# Altium integrated library WE-SL SMD Common Mode Line Filter.IntLib: 7 symbols
Pins are listed as number, name and electrical type; pins without a type are passive.

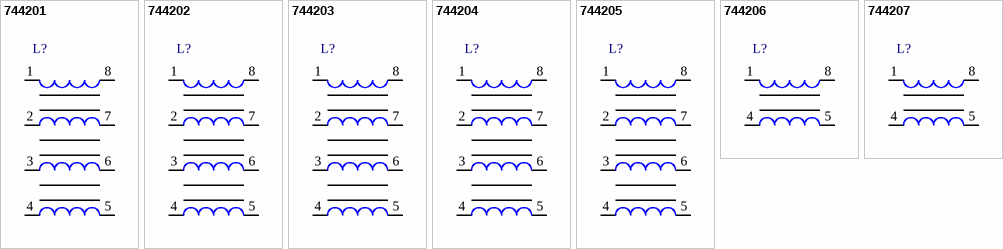
[diagram p0: symbols 744201 to 744207]

## 744201
designator L?
SMD Common Mode Line Filter WE-SL, L = 4700 µH; PartNumber: 744201; Inductance: 4700 µH; DatasheetVersion: ver 6, Dec-2010; PackageReference: WE-SL; PackageDescription: SMD Inductor, 8-Leads, Body 10.5 x 9.7 mm; ComponentLink1Description: Manufacturer URL; ComponentLink1URL: http://www.we-online.com; ComponentLink2Description: Datasheet; ComponentLink2URL: http://www.we-online.de/katalog/media/pdf/744201.pdf
footprint WE-SL (SMD Inductor, 8-Leads, Body 10.5x9.7x6.05 mm)
pins: 1, 2, 3, 4, 5, 6, 7, 8

## 744202
designator L?
SMD Common Mode Line Filter WE-SL, L = 1000 µH; PartNumber: 744202; Inductance: 1000 µH; DatasheetVersion: ver 6, Dec-2010; PackageReference: WE-SL; PackageDescription: SMD Inductor, 8-Leads, Body 10.5 x 9.7 mm; ComponentLink1Description: Manufacturer URL; ComponentLink1URL: http://www.we-online.com; ComponentLink2Description: Datasheet; ComponentLink2URL: http://www.we-online.de/katalog/media/pdf/744202.pdf
footprint WE-SL (SMD Inductor, 8-Leads, Body 10.5x9.7x6.05 mm)
pins: 1, 2, 3, 4, 5, 6, 7, 8

## 744203
designator L?
SMD Common Mode Line Filter WE-SL, L = 500 µH; PartNumber: 744203; Inductance: 500 µH; DatasheetVersion: ver 6, Dec-2010; PackageReference: WE-SL; PackageDescription: SMD Inductor, 8-Leads, Body 10.5 x 9.7 mm; ComponentLink1Description: Manufacturer URL; ComponentLink1URL: http://www.we-online.com; ComponentLink2Description: Datasheet; ComponentLink2URL: http://www.we-online.de/katalog/media/pdf/744203.pdf
footprint WE-SL (SMD Inductor, 8-Leads, Body 10.5x9.7x6.05 mm)
pins: 1, 2, 3, 4, 5, 6, 7, 8

## 744204
designator L?
SMD Common Mode Line Filter WE-SL, L = 250 µH; PartNumber: 744204; Inductance: 250 µH; DatasheetVersion: ver 6, Dec-2010; PackageReference: WE-SL; PackageDescription: SMD Inductor, 8-Leads, Body 10.5 x 9.7 mm; ComponentLink1Description: Manufacturer URL; ComponentLink1URL: http://www.we-online.com; ComponentLink2Description: Datasheet; ComponentLink2URL: http://www.we-online.de/katalog/media/pdf/744204.pdf
footprint WE-SL (SMD Inductor, 8-Leads, Body 10.5x9.7x6.05 mm)
pins: 1, 2, 3, 4, 5, 6, 7, 8

## 744205
designator L?
SMD Common Mode Line Filter WE-SL, L = 100 µH; PartNumber: 744205; Inductance: 100 µH; DatasheetVersion: ver 6, Dec-2010; PackageReference: WE-SL; PackageDescription: SMD Inductor, 8-Leads, Body 10.5 x 9.7 mm; ComponentLink1Description: Manufacturer URL; ComponentLink1URL: http://www.we-online.com; ComponentLink2Description: Datasheet; ComponentLink2URL: http://www.we-online.de/katalog/media/pdf/744205.pdf
footprint WE-SL (SMD Inductor, 8-Leads, Body 10.5x9.7x6.05 mm)
pins: 1, 2, 3, 4, 5, 6, 7, 8

## 744206
designator L?
SMD Common Mode Line Filter WE-SL, L = 60.0 µH; PartNumber: 744206; Inductance: 60.0 µH; DatasheetVersion: ver 5, Oct-2004; PackageReference: WE-SL; PackageDescription: SMD Inductor, 8-Leads, Body 10.5 x 9.7 mm; ComponentLink1Description: Manufacturer URL; ComponentLink1URL: http://www.we-online.com; ComponentLink2Description: Datasheet; ComponentLink2URL: http://www.we-online.de/katalog/media/pdf/744206.pdf
footprint WE-SL (SMD Inductor, 8-Leads, Body 10.5x9.7x6.05 mm)
pins: 1, 4, 5, 8

## 744207
designator L?
SMD Common Mode Line Filter WE-SL, L = 35.0 µH; PartNumber: 744207; Inductance: 35.0 µH; DatasheetVersion: ver 5, Oct-2004; PackageReference: WE-SL; PackageDescription: SMD Inductor, 8-Leads, Body 10.5 x 9.7 mm; ComponentLink1Description: Manufacturer URL; ComponentLink1URL: http://www.we-online.com; ComponentLink2Description: Datasheet; ComponentLink2URL: http://www.we-online.de/katalog/media/pdf/744207.pdf
footprint WE-SL (SMD Inductor, 8-Leads, Body 10.5x9.7x6.05 mm)
pins: 1, 4, 5, 8